# Altium footprint library MicroFit-footprints.PcbLib: 15 footprints
Each footprint in its own frame and in the unit in brackets; x right, y up, seen from the top. Pads: shape width x height; smd on the part's side, far side on the other; paste and mask are expansions set on the pad; w line width, h text height; cw(c..) or ccw(c..) is an arc to the next point about the centre after c.
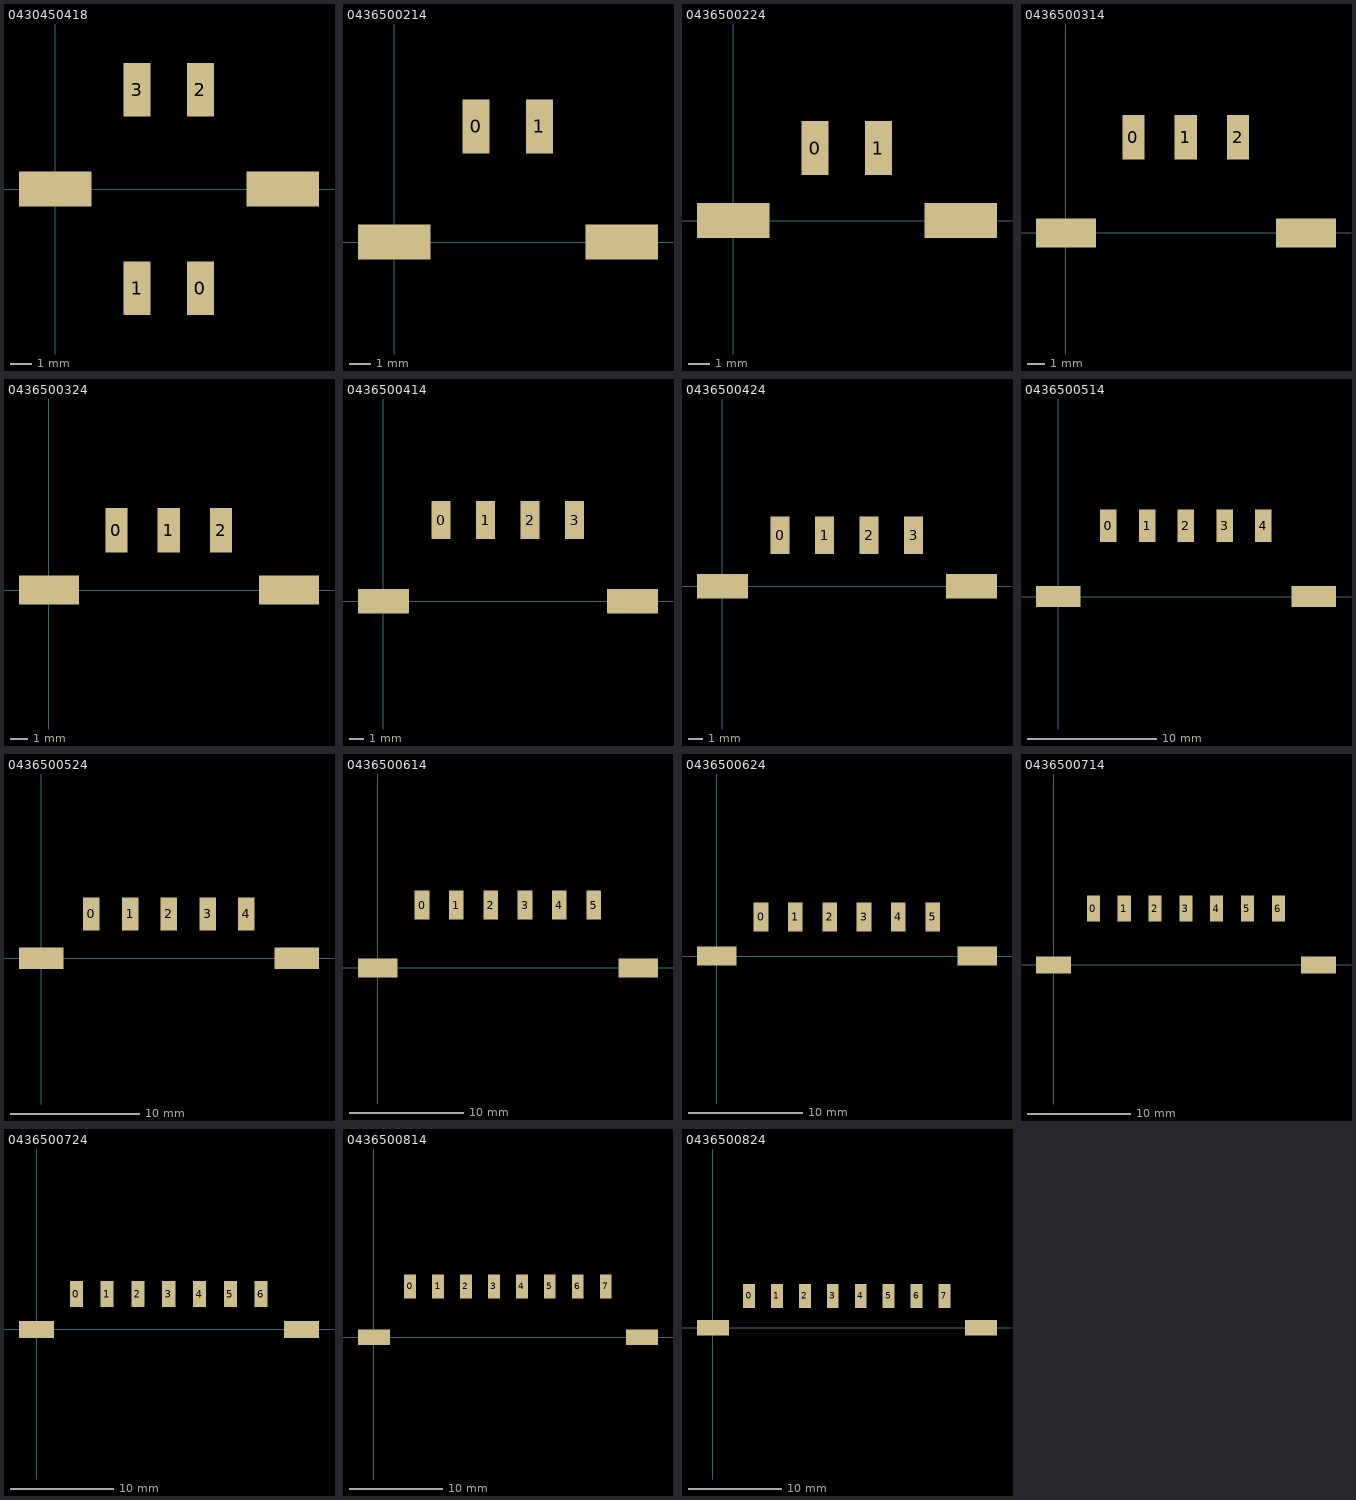
[diagram p0: the footprints below, top view; thin cyan lines are the x and y axes]

## 0430450418 [mil] "MicroFit 4 POS SMD VERTICAL DUAL ROW"
pads (6):
  rect 50x100 smd: 0(270.5,-185) 1(152.5,-185) 2(270.5,185) 3(152.5,185)
  rect 135x65 smd: ""(0,0) ""(424,0)
3D body "430450418.stp": height 394.88, standoff 2.76, extent -57.4,-220.47 480,220.47

## 0436500214 [mil] "MicroFit 2 POS SMD RIGHT ANGLE SINGLE ROW"
pads (4):
  rect 50x100 smd: 0(152.5,215.5) 1(270.5,215.5)
  rect 135x65 smd: ""(0,0) ""(424,0)
3D body "436500213.stp": height 223.43, standoff 0, extent -58.69,-179.88 478.71,242.96

## 0436500224 [mil] "MicroFit 2 POS SMD VERTICAL SINGLE ROW"
pads (4):
  rect 50x100 smd: 0(152.5,135) 1(270.5,135)
  rect 135x65 smd: ""(0,0) ""(424,0)
3D body "436500224.stp": height 394.88, standoff 3.94, extent -58.69,-97.24 478.71,161.42

## 0436500314 [mil] "MicroFit 3 POS SMD RIGHT ANGLE SINGLE ROW"
pads (5):
  rect 50x100 smd: 0(152.5,215.5) 1(270.5,215.5) 2(388.5,215.5)
  rect 135x65 smd: ""(0,0) ""(542,0)
3D body "436500314.stp": height 223.43, standoff 0, extent -55,-181.42 600.51,241.42

## 0436500324 [mil] "MicroFit 3 POS SMD VERTICAL SINGLE ROW"
pads (5):
  rect 50x100 smd: 0(152.5,135) 1(270.5,135) 2(388.5,135)
  rect 135x65 smd: ""(0,0) ""(542,0)
3D body "436500324.stp": height 394.88, standoff 3.94, extent -57.76,-95 597.76,163.66

## 0436500414 [mil] "MicroFit 4 POS SMD RIGHT ANGLE SINGLE ROW"
pads (6):
  rect 50x100 smd: 0(152.5,215.5) 1(270.5,215.5) 2(388.5,215.5) 3(506.5,215.5)
  rect 135x65 smd: ""(0,0) ""(660,0)
3D body "436500414.stp": height 223.43, standoff 0, extent -56.8,-179.88 716.82,242.96

## 0436500424 [mil] "MicroFit 4 POS SMD VERTICAL SINGLE ROW"
pads (6):
  rect 50x100 smd: 0(152.5,135) 1(270.5,135) 2(388.5,135) 3(506.5,135)
  rect 135x65 smd: ""(0,0) ""(660,0)
3D body "436500424.stp": height 394.88, standoff 3.94, extent -56.8,-97.24 716.82,161.43

## 0436500514 [mil] "MicroFit 5 POS SMD RIGHT ANGLE SINGLE ROW"
pads (7):
  rect 50x100 smd: 0(152.5,215.5) 1(270.5,215.5) 2(388.5,215.5) 3(506.5,215.5) 4(624.5,215.5)
  rect 135x65 smd: ""(0,0) ""(778,0)
3D body "436500514.stp": height 223.43, standoff 0, extent -55,-180 836.34,242.84

## 0436500524 [mil] "MicroFit 5 POS SMD VERTICAL SINGLE ROW"
pads (7):
  rect 50x100 smd: 0(152.5,135) 1(270.5,135) 2(388.5,135) 3(506.5,135) 4(624.5,135)
  rect 135x65 smd: ""(0,0) ""(778,0)
3D body "436500524.stp": height 394.88, standoff 3.94, extent -55.66,-97.24 835.68,161.42

## 0436500614 [mil] "MicroFit 6 POS SMD RIGHT ANGLE SINGLE ROW"
pads (8):
  rect 50x100 smd: 0(152.5,215.5) 1(270.5,215.5) 2(388.5,215.5) 3(506.5,215.5) 4(624.5,215.5) 5(742.5,215.5)
  rect 135x65 smd: ""(0,0) ""(896,0)
3D body "436500614.stp": height 223.43, standoff 0, extent -59.72,-179.88 949.73,242.96

## 0436500624 [mil] "MicroFit 6 POS SMD VERTICAL SINGLE ROW"
pads (8):
  rect 50x100 smd: 0(152.5,135) 1(270.5,135) 2(388.5,135) 3(506.5,135) 4(624.5,135) 5(742.5,135)
  rect 135x65 smd: ""(0,0) ""(896,0)
3D body "436500624.stp": height 394.88, standoff 3.94, extent -59.72,-97.24 949.73,161.42

## 0436500714 [mil] "MicroFit 7 POS SMD RIGHT ANGLE SINGLE ROW"
pads (9):
  rect 50x100 smd: 0(152.5,215.5) 1(270.5,215.5) 2(388.5,215.5) 3(506.5,215.5) 4(624.5,215.5) 5(742.5,215.5) 6(860.5,215.5)
  rect 135x65 smd: ""(0,0) ""(1014,0)
3D body "436500714.stp": height 223.43, standoff 0, extent -58.77,-179.88 1068.79,242.96

## 0436500724 [mil] "MicroFit 7 POS SMD VERTICAL SINGLE ROW"
pads (9):
  rect 50x100 smd: 0(152.5,135) 1(270.5,135) 2(388.5,135) 3(506.5,135) 4(624.5,135) 5(742.5,135) 6(860.5,135)
  rect 135x65 smd: ""(0,0) ""(1015,0)
3D body "436500724.stp": height 394.88, standoff 3.94, extent -58.77,-97.24 1068.78,161.42

## 0436500814 [mil] "MicroFit 8 POS SMD RIGHT ANGLE SINGLE ROW"
pads (10):
  rect 50x100 smd: 0(152.5,215.5) 1(270.5,215.5) 2(388.5,215.5) 3(506.5,215.5) 4(624.5,215.5) 5(742.5,215.5) 6(860.5,215.5) 7(978.5,215.5)
  rect 135x65 smd: ""(0,0) ""(1132,0)
3D body "436500814.stp": height 223.43, standoff 0, extent -60,-181.42 1185.67,241.42

## 0436500824 [mil] "MicroFit 8 POS SMD VERTICAL SINGLE ROW"
pads (10):
  rect 50x100 smd: 0(152.5,135) 1(270.5,135) 2(388.5,135) 3(506.5,135) 4(624.5,135) 5(742.5,135) 6(860.5,135) 7(978.5,135)
  rect 135x65 smd: ""(0,0) ""(1133,0)
3D body "436500824.stp": height 394.88, standoff 3.94, extent -57.83,-97.24 1187.84,161.42